# Altium schematic symbol library Potentiometer_Digital.SchLib: 52 symbols
Pins are listed as number, name and electrical type; pins without a type are passive.

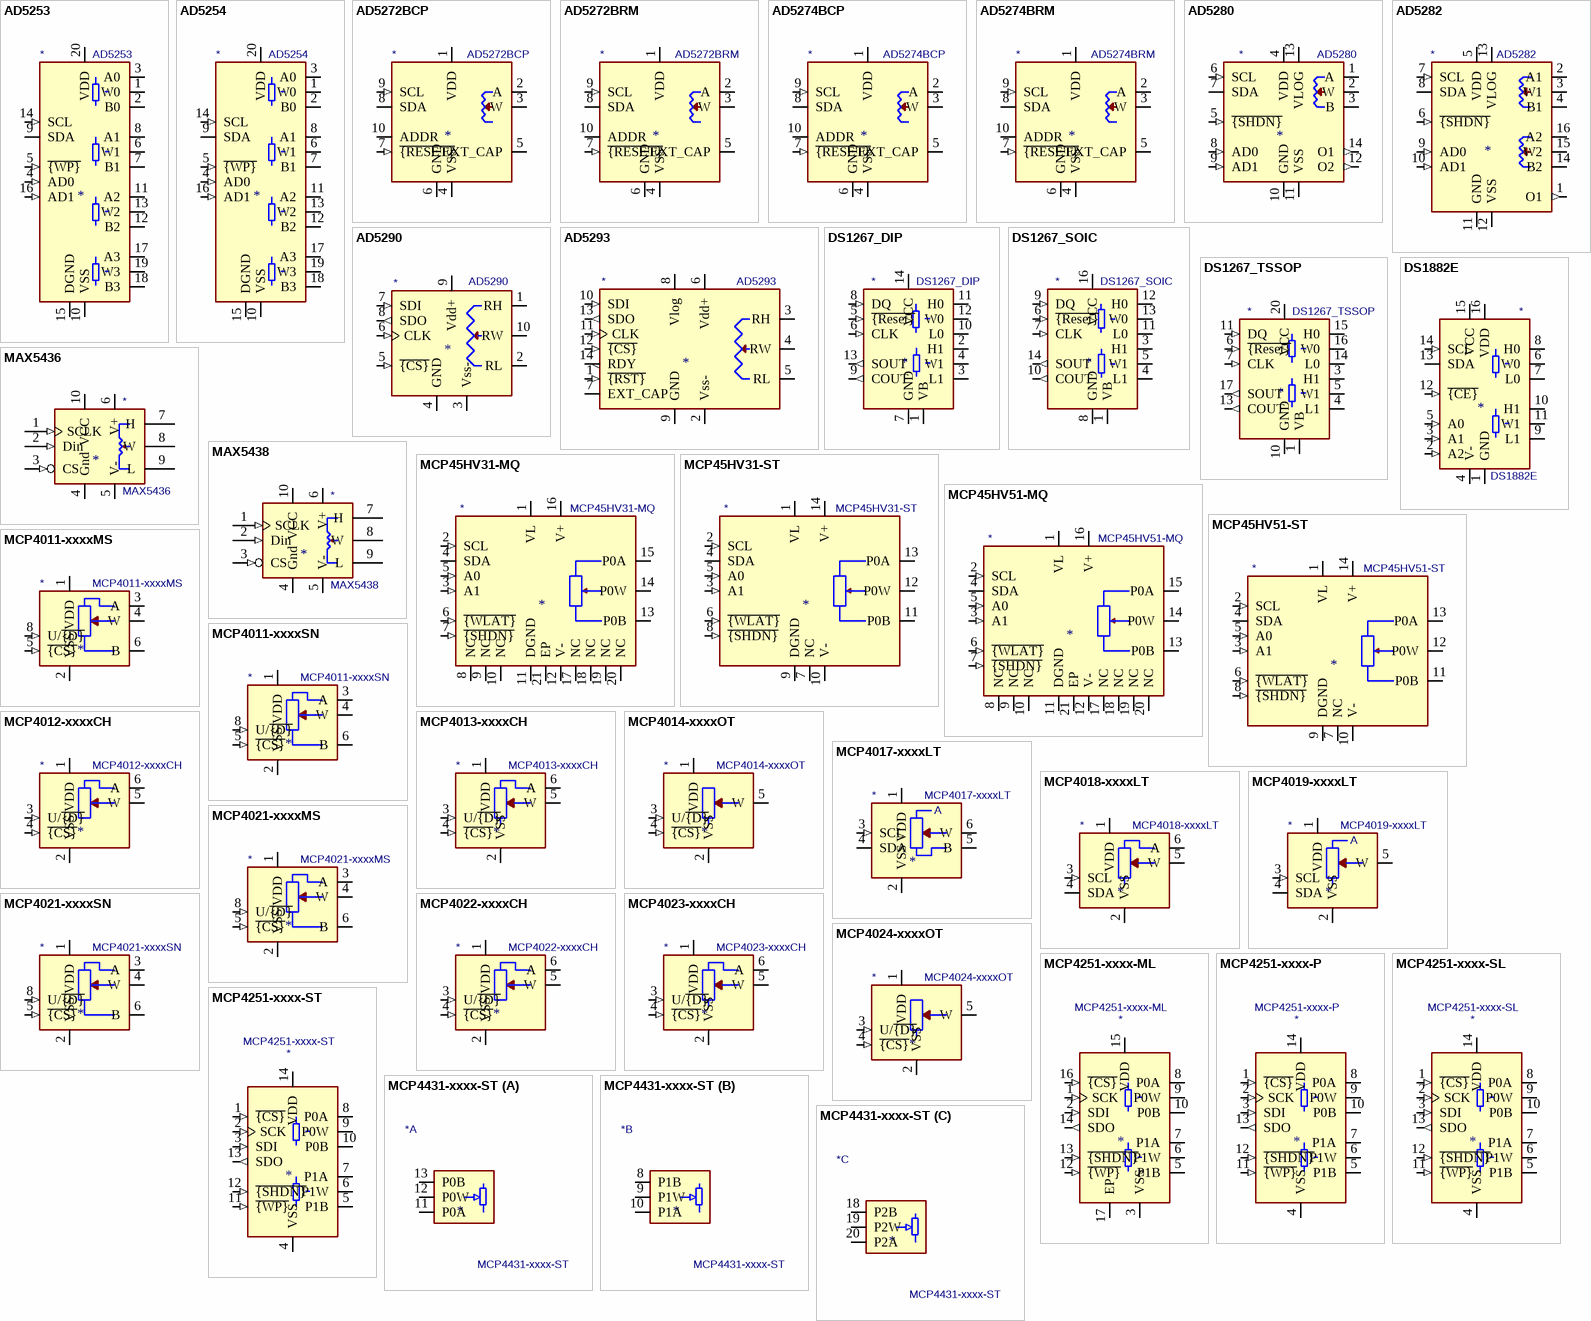
[diagram p0: symbols AD5253 to MCP4431-xxxx-ST]

## AD5253
designator *  value AD5253
ki_keywords: digital potentiometer; ki_description: Digital potentiometer, 64 position, 4 output, I2C interface, TSSOP-20; ki_fp_filters: TSSOP*4.4x6.5mm*P0.65mm*; Footprint: Package_SO:TSSOP-20_4.4x6.5mm_P0.65mm; Supplier: https://www.analog.com/media/en/technical-documentation/data-sheets/AD5253_5254.pdf
footprint TSSOP-20_4.4x6.5mm_P0.65mm
pins: 1 W0, 2 B0, 3 A0, 4 AD0 (in), 5 ~{{WP}} (in), 6 W1, 7 B1, 8 A1, 9 SDA (io), 10 VSS (power), 11 A2, 12 B2, 13 W2, 14 SCL (in), 15 DGND (power), 16 AD1 (in), 17 A3, 18 B3, 19 W3, 20 VDD (power)

## AD5254
designator *  value AD5254
ki_keywords: digital potentiometer; ki_description: Digital potentiometer, 256 position, 4 output, I2C interface, TSSOP-20; ki_fp_filters: TSSOP*4.4x6.5mm*P0.65mm*; Footprint: Package_SO:TSSOP-20_4.4x6.5mm_P0.65mm; Supplier: https://www.analog.com/media/en/technical-documentation/data-sheets/AD5253_5254.pdf
footprint TSSOP-20_4.4x6.5mm_P0.65mm
pins: 1 W0, 2 B0, 3 A0, 4 AD0 (in), 5 ~{{WP}} (in), 6 W1, 7 B1, 8 A1, 9 SDA (io), 10 VSS (power), 11 A2, 12 B2, 13 W2, 14 SCL (in), 15 DGND (power), 16 AD1 (in), 17 A3, 18 B3, 19 W3, 20 VDD (power)

## AD5272BCP
designator *  value AD5272BCP
ki_keywords: digital potentiometer; ki_description: Digital potentiometer, 1024 position, 1% Resistor Tolerance, I2C interface, LFCSP-10; ki_fp_filters: LFCSP*1EP*3x3mm*P0.5mm*; Footprint: Package_CSP:LFCSP-WD-10-1EP_3x3mm_P0.5mm_EP1.64x2.38mm; Supplier: https://www.analog.com/media/en/technical-documentation/data-sheets/AD5272_5274.pdf
footprint LFCSP-WD-10-1EP_3x3mm_P0.5mm_EP1.64x2.38mm
pins: 1 VDD (power), 2 A, 3 W, 4 VSS (power), 5 EXT_CAP, 6 GND (power), 7 ~{{RESET}} (in), 8 SDA (io), 9 SCL (in), 10 ADDR, 11 VSS hidden

## AD5272BRM
designator *  value AD5272BRM
ki_keywords: digital potentiometer; ki_description: Digital potentiometer, 1024 position, 1% Resistor Tolerance, I2C interface, MSOP-10; ki_fp_filters: MSOP*3x3mm*P0.5mm*; Footprint: Package_SO:MSOP-10_3x3mm_P0.5mm; Supplier: https://www.analog.com/media/en/technical-documentation/data-sheets/AD5272_5274.pdf
footprint MSOP-10_3x3mm_P0.5mm
pins: 1 VDD (power), 2 A, 3 W, 4 VSS (power), 5 EXT_CAP, 6 GND (power), 7 ~{{RESET}} (in), 8 SDA (io), 9 SCL (in), 10 ADDR

## AD5274BCP
designator *  value AD5274BCP
ki_keywords: digital potentiometer; ki_description: Digital potentiometer, 256 position, 1% Resistor Tolerance, I2C interface, LFCSP-10; ki_fp_filters: LFCSP*1EP*3x3mm*P0.5mm*; Footprint: Package_CSP:LFCSP-WD-10-1EP_3x3mm_P0.5mm_EP1.64x2.38mm; Supplier: https://www.analog.com/media/en/technical-documentation/data-sheets/AD5272_5274.pdf
footprint LFCSP-WD-10-1EP_3x3mm_P0.5mm_EP1.64x2.38mm
pins: 1 VDD (power), 2 A, 3 W, 4 VSS (power), 5 EXT_CAP, 6 GND (power), 7 ~{{RESET}} (in), 8 SDA (io), 9 SCL (in), 10 ADDR, 11 VSS hidden

## AD5274BRM
designator *  value AD5274BRM
ki_keywords: digital potentiometer; ki_description: Digital potentiometer, 256 position, 1% Resistor Tolerance, I2C interface, MSOP-10; ki_fp_filters: MSOP*3x3mm*P0.5mm*; Footprint: Package_SO:MSOP-10_3x3mm_P0.5mm; Supplier: https://www.analog.com/media/en/technical-documentation/data-sheets/AD5272_5274.pdf
footprint MSOP-10_3x3mm_P0.5mm
pins: 1 VDD (power), 2 A, 3 W, 4 VSS (power), 5 EXT_CAP, 6 GND (power), 7 ~{{RESET}} (in), 8 SDA (io), 9 SCL (in), 10 ADDR

## AD5280
designator *  value AD5280
ki_keywords: digital potentiometer; ki_description: Digital potentiometer, 256 position, single output, I2C interface; ki_fp_filters: TSSOP*4.4x5mm*P0.65mm*; Footprint: Package_SO:TSSOP-14_4.4x5mm_P0.65mm; Supplier: https://www.analog.com/media/en/technical-documentation/data-sheets/AD5280_5282.pdf
footprint TSSOP-14_4.4x5mm_P0.65mm
pins: 1 A, 2 W, 3 B, 4 VDD (power), 5 ~{{SHDN}} (in), 6 SCL (in), 7 SDA (io), 8 AD0 (in), 9 AD1 (in), 10 GND (power), 11 VSS (power), 12 O2 (out), 13 VLOG (power), 14 O1 (out)

## AD5282
designator *  value AD5282
ki_keywords: digital potentiometer; ki_description: Digital potentiometer, 256 position, dual output, I2C interface; ki_fp_filters: TSSOP*4.4x5mm*P0.65mm*; Footprint: Package_SO:TSSOP-16_4.4x5mm_P0.65mm; Supplier: https://www.analog.com/media/en/technical-documentation/data-sheets/AD5280_5282.pdf
footprint TSSOP-16_4.4x5mm_P0.65mm
pins: 1 O1 (out), 2 A1, 3 W1, 4 B1, 5 VDD (power), 6 ~{{SHDN}} (in), 7 SCL (in), 8 SDA (io), 9 AD0 (in), 10 AD1 (in), 11 GND (power), 12 VSS (power), 13 VLOG (power), 14 B2, 15 W2, 16 A2

## AD5290
designator *  value AD5290
ki_keywords: R POT; ki_description: Digital Potentiometer  256 steps   (SPI control) +- 15V, MSOP-10; ki_fp_filters: MSOP*3x3mm*P0.5mm*; Footprint: Package_SO:MSOP-10_3x3mm_P0.5mm; Supplier: https://www.analog.com/media/en/technical-documentation/data-sheets/AD5290.pdf
footprint MSOP-10_3x3mm_P0.5mm
pins: 1 RH, 2 RL, 3 Vss- (power), 4 GND (power), 5 ~{{CS}} (in), 6 CLK (in), 7 SDI (in), 8 SDO (out), 9 Vdd+ (power), 10 RW

## AD5293
designator *  value AD5293
ki_keywords: R POT; ki_description: Digital potentiometer 1024 pos (SPI), TSSOP-14; ki_fp_filters: TSSOP*4.4x5mm*P0.65mm*; Footprint: Package_SO:TSSOP-14_4.4x5mm_P0.65mm; Supplier: https://www.analog.com/media/en/technical-documentation/data-sheets/AD5293.pdf
footprint TSSOP-14_4.4x5mm_P0.65mm
pins: 1 ~{{RST}} (in), 2 Vss- (power), 3 RH, 4 RW, 5 RL, 6 Vdd+ (power), 7 EXT_CAP, 8 Vlog (power), 9 GND (power), 10 SDI (in), 11 CLK (in), 12 ~{{CS}} (in), 13 SDO (out), 14 RDY (oc)

## DS1267_DIP
designator *  value DS1267_DIP
ki_keywords: Dual Digital Potentiometer Maxim; ki_description: Dual Digital Potentiometer, Serial, 256 Steps, DIP-14; ki_fp_filters: DIP*W7.62mm*; Footprint: Package_DIP:DIP-14_W7.62mm; Supplier: https://datasheets.maximintegrated.com/en/ds/DS1267.pdf
footprint DIP-14_W7.62mm
pins: 1 VB (power), 2 H1, 3 L1, 4 W1, 5 ~{{Reset}} (in), 6 CLK (in), 7 GND (power), 8 DQ (in), 9 COUT (out), 10 L0, 11 H0, 12 W0, 13 SOUT (out), 14 VCC (power)

## DS1267_SOIC
designator *  value DS1267_SOIC
ki_keywords: Dual Digital Potentiometer Maxim; ki_description: Dual Digital Potentiometer, Serial, 256 Steps, SOIC-16; ki_fp_filters: SOIC*3.9x9.9mm*1.27mm*; Footprint: Package_SO:SOIC-16_3.9x9.9mm_P1.27mm; Supplier: https://datasheets.maximintegrated.com/en/ds/DS1267.pdf
footprint SOIC-16_3.9x9.9mm_P1.27mm
pins: 1 VB (power), 3 H1, 4 L1, 5 W1, 6 ~{{Reset}} (in), 7 CLK (in), 8 GND (power), 9 DQ (in), 10 COUT (out), 11 L0, 12 H0, 13 W0, 14 SOUT (out), 16 VCC (power)

## DS1267_TSSOP
designator *  value DS1267_TSSOP
ki_keywords: Dual Digital Potentiometer Maxim; ki_description: Dual Digital Potentiometer, Serial, 256 Steps, TSSOP-20; ki_fp_filters: TSSOP*4.4x6.5mm*0.65mm*; Footprint: Package_SO:TSSOP-20_4.4x6.5mm_P0.65mm; Supplier: https://datasheets.maximintegrated.com/en/ds/DS1267.pdf
footprint TSSOP-20_4.4x6.5mm_P0.65mm
pins: 1 VB (power), 3 H1, 4 L1, 5 W1, 6 ~{{Reset}} (in), 7 CLK (in), 10 GND (power), 11 DQ (in), 13 COUT (out), 14 L0, 15 H0, 16 W0, 17 SOUT (out), 20 VCC (power)

## DS1882E
designator *  value DS1882E
ki_keywords: digital potentiometer; ki_description: Dual Log Audio Digital Potentiometer, 64 positions, TSSOP-16; ki_fp_filters: TSSOP*4.4x5mm*P0.65mm*; Footprint: Package_SO:TSSOP-16_4.4x5mm_P0.65mm; Supplier: https://datasheets.maximintegrated.com/en/ds/DS1882.pdf
footprint TSSOP-16_4.4x5mm_P0.65mm
pins: 1 GND (power), 2 A2 (in), 3 A1 (in), 4 V- (power), 5 A0 (in), 6 W0, 7 L0, 8 H0, 9 L1, 10 H1, 11 W1, 12 ~{{CE}} (in), 13 SDA (io), 14 SCL (in), 15 VCC (power), 16 VDD (power)

## MAX5436
designator *  value MAX5436
ki_keywords: digital potentiometer resistor variable; ki_description: Low-Drift Digital Potentiometer; Supplier: https://datasheets.maximintegrated.com/en/ds/MAX5436-MAX5439.pdf
pins: 1 SCLK (in), 2 Din (in), 3 CS (in), 4 Gnd (power), 5 V- (power), 6 V+ (power), 7 H, 8 W, 9 L, 10 VCC (power)

## MAX5438
designator *  value MAX5438
ki_keywords: digital potentiometer resistor variable; ki_description: Low-Drift Digital Potentiometer; Supplier: https://datasheets.maximintegrated.com/en/ds/MAX5436-MAX5439.pdf
pins: 1 SCLK (in), 2 Din (in), 3 CS (in), 4 Gnd (power), 5 V- (power), 6 V+ (power), 7 H, 8 W, 9 L, 10 VCC (power)

## MCP45HV31-MQ
designator *  value MCP45HV31-MQ
ki_keywords: I2C Potentiometer pot digital; ki_description: 7/8-bit single +36V (+/-18V) digital pot, I2C serial interface, volatile memory, QFN-20; ki_fp_filters: QFN*5x5mm*P0.65mm*; Footprint: Package_DFN_QFN:QFN-20-1EP_5x5mm_P0.65mm_EP3.35x3.35mm; Supplier: http://ww1.microchip.com/downloads/en/DeviceDoc/20005304A.pdf
footprint QFN-20-1EP_5x5mm_P0.65mm_EP3.35x3.35mm
pins: 1 VL (power), 2 SCL (in), 3 A1 (in), 4 SDA (io), 5 A0 (in), 6 ~{{WLAT}} (in), 7 ~{{SHDN}} (in), 8 NC, 9 NC, 10 NC, 11 DGND (power), 12 V- (power), 13 P0B, 14 P0W, 15 P0A, 16 V+ (power), 17 NC, 18 NC, 19 NC, 20 NC, 21 EP (power)

## MCP45HV31-ST
designator *  value MCP45HV31-ST
ki_keywords: I2C Potentiometer pot digital; ki_description: 7/8-bit single +36V (+/-18V) digital pot, I2C serial interface, volatile memory, TSSOP-14; ki_fp_filters: TSSOP*4.4x5mm*P0.65mm*; Footprint: Package_SO:TSSOP-14_4.4x5mm_P0.65mm; Supplier: http://ww1.microchip.com/downloads/en/DeviceDoc/20005304A.pdf
footprint TSSOP-14_4.4x5mm_P0.65mm
pins: 1 VL (power), 2 SCL (in), 3 A1 (in), 4 SDA (io), 5 A0 (in), 6 ~{{WLAT}} (in), 7 NC, 8 ~{{SHDN}} (in), 9 DGND (power), 10 V- (power), 11 P0B, 12 P0W, 13 P0A, 14 V+ (power)

## MCP45HV51-MQ
designator *  value MCP45HV51-MQ
ki_keywords: I2C Potentiometer pot digital; ki_description: 7/8-bit single +36V (+/-18V) digital pot, I2C serial interface, volatile memory, QFN-20; ki_fp_filters: QFN*5x5mm*P0.65mm*; Footprint: Package_DFN_QFN:QFN-20-1EP_5x5mm_P0.65mm_EP3.35x3.35mm; Supplier: http://ww1.microchip.com/downloads/en/DeviceDoc/20005304A.pdf
footprint QFN-20-1EP_5x5mm_P0.65mm_EP3.35x3.35mm
pins: 1 VL (power), 2 SCL (in), 3 A1 (in), 4 SDA (io), 5 A0 (in), 6 ~{{WLAT}} (in), 7 ~{{SHDN}} (in), 8 NC, 9 NC, 10 NC, 11 DGND (power), 12 V- (power), 13 P0B, 14 P0W, 15 P0A, 16 V+ (power), 17 NC, 18 NC, 19 NC, 20 NC, 21 EP (power)

## MCP45HV51-ST
designator *  value MCP45HV51-ST
ki_keywords: I2C Potentiometer pot digital; ki_description: 7/8-bit single +36V (+/-18V) digital pot, I2C serial interface, volatile memory, TSSOP-14; ki_fp_filters: TSSOP*4.4x5mm*P0.65mm*; Footprint: Package_SO:TSSOP-14_4.4x5mm_P0.65mm; Supplier: http://ww1.microchip.com/downloads/en/DeviceDoc/20005304A.pdf
footprint TSSOP-14_4.4x5mm_P0.65mm
pins: 1 VL (power), 2 SCL (in), 3 A1 (in), 4 SDA (io), 5 A0 (in), 6 ~{{WLAT}} (in), 7 NC, 8 ~{{SHDN}} (in), 9 DGND (power), 10 V- (power), 11 P0B, 12 P0W, 13 P0A, 14 V+ (power)

## MCP4011-xxxxMS
designator *  value MCP4011-xxxxMS
ki_keywords: Digital Pot Potentiometer Up Down; ki_description: Low-Cost 64-Step Volatile Digital Potentiometer; ki_fp_filters: MSOP*3x3mm*P0.65mm*; Footprint: Package_SO:MSOP-8_3x3mm_P0.65mm; Supplier: http://ww1.microchip.com/downloads/en/DeviceDoc/21978c.pdf, MSOP-8
footprint MSOP-8_3x3mm_P0.65mm
pins: 1 VDD (power), 2 VSS (power), 3 A, 4 W, 5 ~{{CS}} (in), 6 B, 7 NC (in) hidden, 8 U/~{{D}} (in)

## MCP4011-xxxxSN
designator *  value MCP4011-xxxxSN
ki_keywords: Digital Pot Potentiometer Up Down; ki_description: Low-Cost 64-Step Volatile Digital Potentiometer; ki_fp_filters: SOIC*3.9x4.9mm*P1.27mm*; Footprint: Package_SO:SOIC-8_3.9x4.9mm_P1.27mm; Supplier: http://ww1.microchip.com/downloads/en/DeviceDoc/21978c.pdf, SOIC-8
footprint SOIC-8_3.9x4.9mm_P1.27mm
pins: 1 VDD (power), 2 VSS (power), 3 A, 4 W, 5 ~{{CS}} (in), 6 B, 7 NC (in) hidden, 8 U/~{{D}} (in)

## MCP4012-xxxxCH
designator *  value MCP4012-xxxxCH
ki_keywords: Digital Pot Potentiometer Up Down; ki_description: Low-Cost 64-Step Volatile Digital Potentiometer; ki_fp_filters: SOT?23*; Footprint: Package_TO_SOT_SMD:SOT-23-6; Supplier: http://ww1.microchip.com/downloads/en/DeviceDoc/21978c.pdf, SOT-23-6
footprint SOT-23-6
pins: 1 VDD (power), 2 VSS (power), 3 U/~{{D}} (in), 4 ~{{CS}} (in), 5 W, 6 A

## MCP4013-xxxxCH
designator *  value MCP4013-xxxxCH
ki_keywords: Digital Pot Potentiometer Up Down; ki_description: Low-Cost 64-Step Volatile Digital Potentiometer; ki_fp_filters: SOT?23*; Footprint: Package_TO_SOT_SMD:SOT-23-6; Supplier: http://ww1.microchip.com/downloads/en/DeviceDoc/21978c.pdf, SOT-23-6
footprint SOT-23-6
pins: 1 VDD (power), 2 VSS (power), 3 U/~{{D}} (in), 4 ~{{CS}} (in), 5 W, 6 A

## MCP4014-xxxxOT
designator *  value MCP4014-xxxxOT
ki_keywords: Digital Pot Potentiometer Up Down; ki_description: Low-Cost 64-Step Volatile Digital Potentiometer; ki_fp_filters: SOT?23*; Footprint: Package_TO_SOT_SMD:SOT-23-5; Supplier: http://ww1.microchip.com/downloads/en/DeviceDoc/21978c.pdf, SOT-23-5
footprint SOT-23-5
pins: 1 VDD (power), 2 VSS (power), 3 U/~{{D}} (in), 4 ~{{CS}} (in), 5 W

## MCP4017-xxxxLT
designator *  value MCP4017-xxxxLT
ki_keywords: TWI pot rheostat; ki_description: Low-Cost 128-Step Volatile I2C Digital Potentiometer, SC-70-6; ki_fp_filters: *SC?70*; Footprint: Package_TO_SOT_SMD:SOT-363_SC-70-6; Supplier: http://ww1.microchip.com/downloads/en/DeviceDoc/22147a.pdf
footprint SOT-363_SC-70-6
pins: 1 VDD (power), 2 VSS (power), 3 SCL (in), 4 SDA (io), 5 B, 6 W
text: A

## MCP4018-xxxxLT
designator *  value MCP4018-xxxxLT
ki_keywords: TWI pot; ki_description: Low-Cost 128-Step Volatile I2C Digital Potentiometer, SC-70-6; ki_fp_filters: *SC?70*; Footprint: Package_TO_SOT_SMD:SOT-363_SC-70-6; Supplier: http://ww1.microchip.com/downloads/en/DeviceDoc/22147a.pdf
footprint SOT-363_SC-70-6
pins: 1 VDD (power), 2 VSS (power), 3 SCL (in), 4 SDA (io), 5 W, 6 A

## MCP4019-xxxxLT
designator *  value MCP4019-xxxxLT
ki_keywords: TWI pot rheostat; ki_description: Low-Cost 128-Step Volatile I2C Digital Potentiometer, SC-70-5; ki_fp_filters: *SC?70*; Footprint: Package_TO_SOT_SMD:SOT-353_SC-70-5; Supplier: http://ww1.microchip.com/downloads/en/DeviceDoc/22147a.pdf
footprint SOT-353_SC-70-5
pins: 1 VDD (power), 2 VSS (power), 3 SCL (in), 4 SDA (io), 5 W
text: A

## MCP4021-xxxxMS
designator *  value MCP4021-xxxxMS
ki_keywords: Digital Pot Potentiometer Up Down; ki_description: Low-Cost 64-Step Digital Potentiometer with WiperLock™ Technology, MSOP-8; ki_fp_filters: MSOP*3x3mm*P0.65mm*; Footprint: Package_SO:MSOP-8_3x3mm_P0.65mm; Supplier: http://ww1.microchip.com/downloads/en/DeviceDoc/21945e.pdf
footprint MSOP-8_3x3mm_P0.65mm
pins: 1 VDD (power), 2 VSS (power), 3 A, 4 W, 5 ~{{CS}} (in), 6 B, 7 NC (in) hidden, 8 U/~{{D}} (in)

## MCP4021-xxxxSN
designator *  value MCP4021-xxxxSN
ki_keywords: Digital Pot Potentiometer Up Down; ki_description: Low-Cost 64-Step Digital Potentiometer with WiperLock™ Technology, SOIC-8; ki_fp_filters: SOIC*3.9x4.9mm*P1.27mm*; Footprint: Package_SO:SOIC-8_3.9x4.9mm_P1.27mm; Supplier: http://ww1.microchip.com/downloads/en/DeviceDoc/21945e.pdf
footprint SOIC-8_3.9x4.9mm_P1.27mm
pins: 1 VDD (power), 2 VSS (power), 3 A, 4 W, 5 ~{{CS}} (in), 6 B, 7 NC (in) hidden, 8 U/~{{D}} (in)

## MCP4022-xxxxCH
designator *  value MCP4022-xxxxCH
ki_keywords: Digital Pot Potentiometer Up Down; ki_description: Low-Cost 64-Step Digital Potentiometer with WiperLock™ Technology, SOT-23-6; ki_fp_filters: SOT?23*; Footprint: Package_TO_SOT_SMD:SOT-23-6; Supplier: http://ww1.microchip.com/downloads/en/DeviceDoc/21945e.pdf
footprint SOT-23-6
pins: 1 VDD (power), 2 VSS (power), 3 U/~{{D}} (in), 4 ~{{CS}} (in), 5 W, 6 A

## MCP4023-xxxxCH
designator *  value MCP4023-xxxxCH
ki_keywords: Digital Pot Potentiometer Up Down; ki_description: Low-Cost 64-Step Digital Potentiometer with WiperLock™ Technology, SOT-23-6; ki_fp_filters: SOT?23*; Footprint: Package_TO_SOT_SMD:SOT-23-6; Supplier: http://ww1.microchip.com/downloads/en/DeviceDoc/21945e.pdf
footprint SOT-23-6
pins: 1 VDD (power), 2 VSS (power), 3 U/~{{D}} (in), 4 ~{{CS}} (in), 5 W, 6 A

## MCP4024-xxxxOT
designator *  value MCP4024-xxxxOT
ki_keywords: Digital Pot Potentiometer Up Down; ki_description: Low-Cost 64-Step Digital Potentiometer with WiperLock™ Technology, SOT-23-5; ki_fp_filters: SOT?23*; Footprint: Package_TO_SOT_SMD:SOT-23-5; Supplier: http://ww1.microchip.com/downloads/en/DeviceDoc/21945e.pdf
footprint SOT-23-5
pins: 1 VDD (power), 2 VSS (power), 3 U/~{{D}} (in), 4 ~{{CS}} (in), 5 W

## MCP4251-xxxx-ML
designator *  value MCP4251-xxxx-ML
ki_keywords: Digital Pot Potentiometer; ki_description: Dual 8 Bit Digital Pot, SPI, Volatile Memory, QFN-16; ki_fp_filters: QFN*4x4mm*P0.65mm*; Footprint: Package_DFN_QFN:QFN-16-1EP_4x4mm_P0.65mm_EP2.5x2.5mm; Supplier: http://ww1.microchip.com/downloads/en/devicedoc/22060b.pdf
footprint QFN-16-1EP_4x4mm_P0.65mm_EP2.5x2.5mm
pins: 1 SCK (in), 2 SDI (in), 3 VSS (power), 4 VSS hidden, 5 P1B, 6 P1W, 7 P1A, 8 P0A, 9 P0W, 10 P0B, 11 NC (in) hidden, 12 ~{{WP}} (in), 13 ~{{SHDN}} (in), 14 SDO (out), 15 VDD (power), 16 ~{{CS}} (in), 17 EP

## MCP4251-xxxx-P
designator *  value MCP4251-xxxx-P
ki_keywords: Digital Pot Potentiometer; ki_description: Dual 8 Bit Digital Pot, SPI, Volatile Memory, PDIP-14; ki_fp_filters: DIP*W7.62mm*; Footprint: Package_DIP:DIP-14_W7.62mm; Supplier: http://ww1.microchip.com/downloads/en/devicedoc/22060b.pdf
footprint DIP-14_W7.62mm
pins: 1 ~{{CS}} (in), 2 SCK (in), 3 SDI (in), 4 VSS (power), 5 P1B, 6 P1W, 7 P1A, 8 P0A, 9 P0W, 10 P0B, 11 ~{{WP}} (in), 12 ~{{SHDN}} (in), 13 SDO (out), 14 VDD (power)

## MCP4251-xxxx-SL
designator *  value MCP4251-xxxx-SL
ki_keywords: Digital Pot Potentiometer; ki_description: Dual 8 Bit Digital Pot, SPI, Volatile Memory, SOIC-14; ki_fp_filters: SOIC*3.9x8.7mm*P1.27mm*; Footprint: Package_SO:SOIC-14_3.9x8.7mm_P1.27mm; Supplier: http://ww1.microchip.com/downloads/en/devicedoc/22060b.pdf
footprint SOIC-14_3.9x8.7mm_P1.27mm
pins: 1 ~{{CS}} (in), 2 SCK (in), 3 SDI (in), 4 VSS (power), 5 P1B, 6 P1W, 7 P1A, 8 P0A, 9 P0W, 10 P0B, 11 ~{{WP}} (in), 12 ~{{SHDN}} (in), 13 SDO (out), 14 VDD (power)

## MCP4251-xxxx-ST
designator *  value MCP4251-xxxx-ST
ki_keywords: Digital Pot Potentiometer; ki_description: Dual 8 Bit Digital Pot, SPI, Volatile Memory, TSSOP-14; ki_fp_filters: TSSOP*4.4x5mm*P0.65mm*; Footprint: Package_SO:TSSOP-14_4.4x5mm_P0.65mm; Supplier: http://ww1.microchip.com/downloads/en/devicedoc/22060b.pdf
footprint TSSOP-14_4.4x5mm_P0.65mm
pins: 1 ~{{CS}} (in), 2 SCK (in), 3 SDI (in), 4 VSS (power), 5 P1B, 6 P1W, 7 P1A, 8 P0A, 9 P0W, 10 P0B, 11 ~{{WP}} (in), 12 ~{{SHDN}} (in), 13 SDO (out), 14 VDD (power)

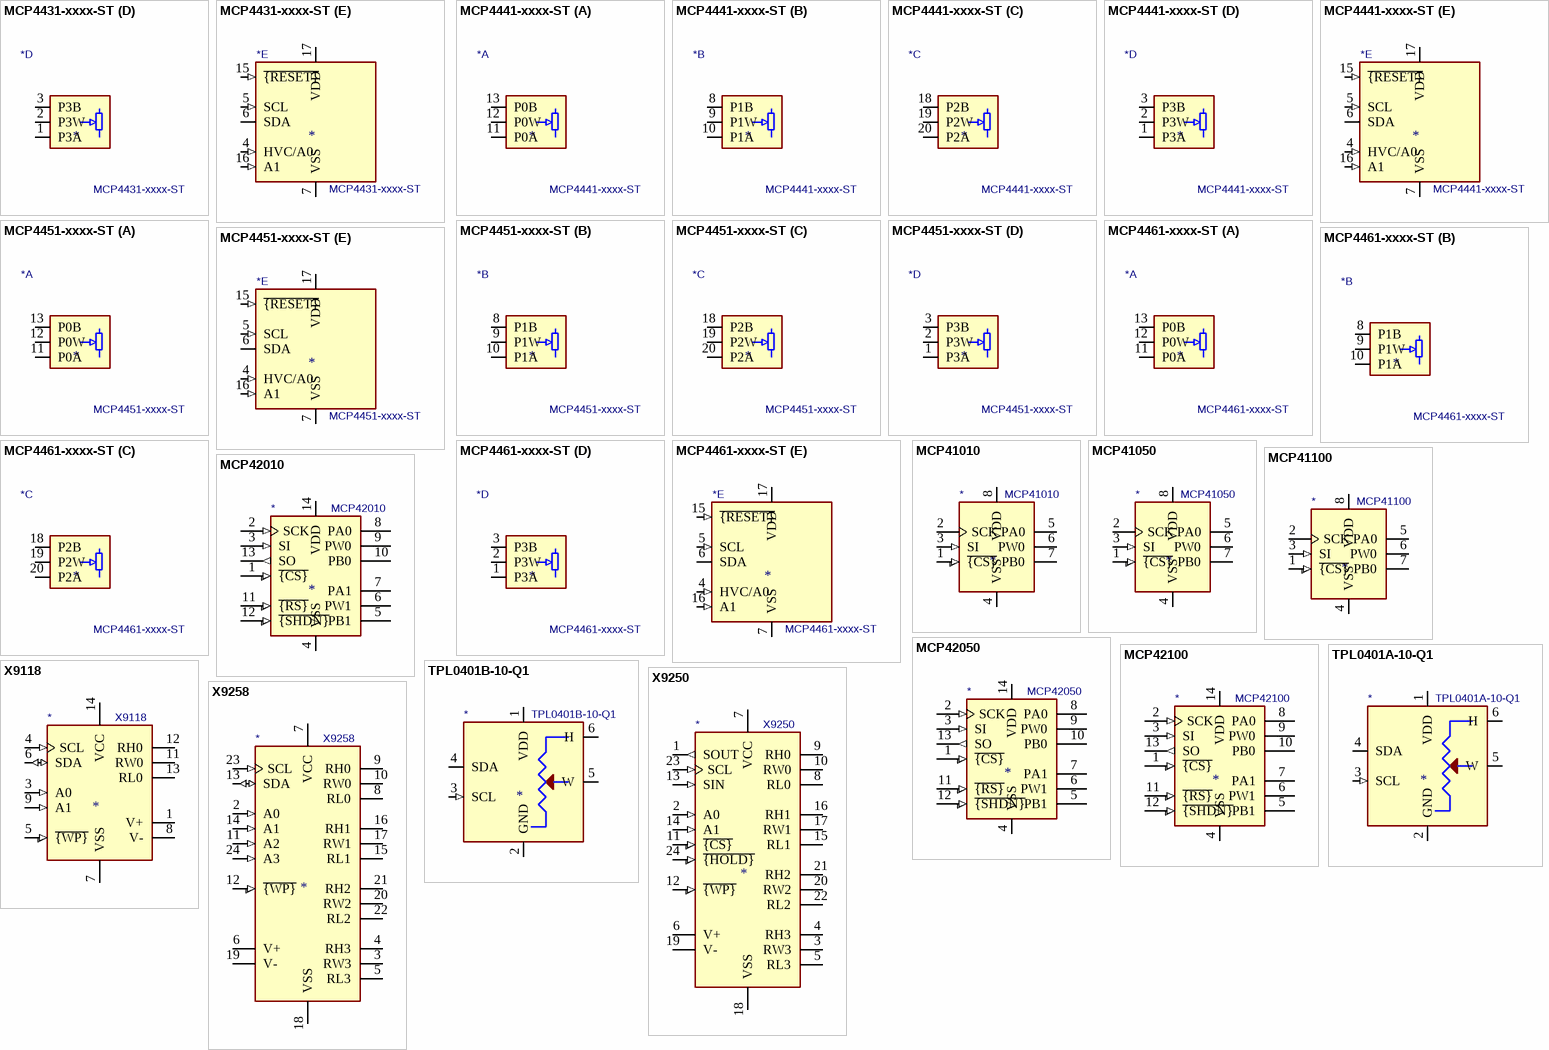
[diagram p1: symbols MCP4431-xxxx-ST to X9258]

## MCP4431-xxxx-ST
designator *  value MCP4431-xxxx-ST
ki_keywords: Digital Pot Potentiometer DigiPot; ki_description: Quad 7 Bit Digital Potentiometer, I²C, Volatile Memory, TSSOP-20; ki_fp_filters: TSSOP*4.4x6.5mm*P0.65mm*; Footprint: Package_SO:TSSOP-20_4.4x6.5mm_P0.65mm; Supplier: https://ww1.microchip.com/downloads/en/DeviceDoc/22267A_MCP4431.pdf
footprint TSSOP-20_4.4x6.5mm_P0.65mm
part A pins: 11 P0A, 12 P0W, 13 P0B
part B pins: 8 P1B, 9 P1W, 10 P1A
part C pins: 18 P2B, 19 P2W, 20 P2A
part D pins: 1 P3A, 2 P3W, 3 P3B
part E pins: 4 HVC/A0 (in), 5 SCL (in), 6 SDA (io), 7 VSS (power), 14 NC (in) hidden, 15 ~{{RESET}} (in), 16 A1 (in), 17 VDD (power)

## MCP4441-xxxx-ST
designator *  value MCP4441-xxxx-ST
ki_keywords: Digital Pot Potentiometer DigiPot; ki_description: Quad 7 Bit Digital Potentiometer, I²C, Nonvolatile Memory, TSSOP-20; ki_fp_filters: TSSOP*4.4x6.5mm*P0.65mm*; Footprint: Package_SO:TSSOP-20_4.4x6.5mm_P0.65mm; Supplier: https://ww1.microchip.com/downloads/en/DeviceDoc/22267A_MCP4431.pdf
footprint TSSOP-20_4.4x6.5mm_P0.65mm
part A pins: 11 P0A, 12 P0W, 13 P0B
part B pins: 8 P1B, 9 P1W, 10 P1A
part C pins: 18 P2B, 19 P2W, 20 P2A
part D pins: 1 P3A, 2 P3W, 3 P3B
part E pins: 4 HVC/A0 (in), 5 SCL (in), 6 SDA (io), 7 VSS (power), 14 NC (in) hidden, 15 ~{{RESET}} (in), 16 A1 (in), 17 VDD (power)

## MCP4451-xxxx-ST
designator *  value MCP4451-xxxx-ST
ki_keywords: Digital Pot Potentiometer DigiPot; ki_description: Quad 8 Bit Digital Potentiometer, I²C, Volatile Memory, TSSOP-20; ki_fp_filters: TSSOP*4.4x6.5mm*P0.65mm*; Footprint: Package_SO:TSSOP-20_4.4x6.5mm_P0.65mm; Supplier: https://ww1.microchip.com/downloads/en/DeviceDoc/22267A_MCP4431.pdf
footprint TSSOP-20_4.4x6.5mm_P0.65mm
part A pins: 11 P0A, 12 P0W, 13 P0B
part B pins: 8 P1B, 9 P1W, 10 P1A
part C pins: 18 P2B, 19 P2W, 20 P2A
part D pins: 1 P3A, 2 P3W, 3 P3B
part E pins: 4 HVC/A0 (in), 5 SCL (in), 6 SDA (io), 7 VSS (power), 14 NC (in) hidden, 15 ~{{RESET}} (in), 16 A1 (in), 17 VDD (power)

## MCP4461-xxxx-ST
designator *  value MCP4461-xxxx-ST
ki_keywords: Digital Pot Potentiometer DigiPot; ki_description: Quad 8 Bit Digital Potentiometer, I²C, Nonvolatile Memory, TSSOP-20; ki_fp_filters: TSSOP*4.4x6.5mm*P0.65mm*; Footprint: Package_SO:TSSOP-20_4.4x6.5mm_P0.65mm; Supplier: https://ww1.microchip.com/downloads/en/DeviceDoc/22267A_MCP4431.pdf
footprint TSSOP-20_4.4x6.5mm_P0.65mm
part A pins: 11 P0A, 12 P0W, 13 P0B
part B pins: 8 P1B, 9 P1W, 10 P1A
part C pins: 18 P2B, 19 P2W, 20 P2A
part D pins: 1 P3A, 2 P3W, 3 P3B
part E pins: 4 HVC/A0 (in), 5 SCL (in), 6 SDA (io), 7 VSS (power), 14 NC (in) hidden, 15 ~{{RESET}} (in), 16 A1 (in), 17 VDD (power)

## MCP41010
designator *  value MCP41010
ki_keywords: R POT; ki_description: Single Digital Potentiometer, SPI interface, 256 taps, 10 kohm; ki_fp_filters: DIP*W7.62mm* SOIC*P1.27mm*; Supplier: http://ww1.microchip.com/downloads/en/DeviceDoc/11195c.pdf
pins: 1 ~{{CS}} (in), 2 SCK, 3 SI (in), 4 VSS (power), 5 PA0, 6 PW0, 7 PB0, 8 VDD (power)

## MCP41050
designator *  value MCP41050
ki_keywords: R POT; ki_description: Single Digital Potentiometer, SPI interface, 256 taps, 50 kohm; ki_fp_filters: DIP*W7.62mm* SOIC*P1.27mm*; Supplier: http://ww1.microchip.com/downloads/en/DeviceDoc/11195c.pdf
pins: 1 ~{{CS}} (in), 2 SCK, 3 SI (in), 4 VSS (power), 5 PA0, 6 PW0, 7 PB0, 8 VDD (power)

## MCP41100
designator *  value MCP41100
ki_keywords: R POT; ki_description: Single Digital Potentiometer, SPI interface, 256 taps, 100 kohm; ki_fp_filters: DIP*W7.62mm* SOIC*P1.27mm*; Supplier: http://ww1.microchip.com/downloads/en/DeviceDoc/11195c.pdf
pins: 1 ~{{CS}} (in), 2 SCK, 3 SI (in), 4 VSS (power), 5 PA0, 6 PW0, 7 PB0, 8 VDD (power)

## MCP42010
designator *  value MCP42010
ki_keywords: R POT; ki_description: Dual Digital Potentiometer, SPI interface, 256 taps, 10 kohm; ki_fp_filters: DIP*W7.62mm* SOIC*3.9x8.7mm*P1.27mm* TSSOP*4.4x5mm*P0.65mm*; Supplier: http://ww1.microchip.com/downloads/en/DeviceDoc/11195c.pdf
pins: 1 ~{{CS}} (in), 2 SCK (in), 3 SI (in), 4 VSS (power), 5 PB1, 6 PW1, 7 PA1, 8 PA0, 9 PW0, 10 PB0, 11 ~{{RS}} (in), 12 ~{{SHDN}} (in), 13 SO (out), 14 VDD (power)

## MCP42050
designator *  value MCP42050
ki_keywords: R POT; ki_description: Dual Digital Potentiometer, SPI interface, 256 taps, 50 kohm; ki_fp_filters: DIP*W7.62mm* SOIC*3.9x8.7mm*P1.27mm* TSSOP*4.4x5mm*P0.65mm*; Supplier: http://ww1.microchip.com/downloads/en/DeviceDoc/11195c.pdf
pins: 1 ~{{CS}} (in), 2 SCK (in), 3 SI (in), 4 VSS (power), 5 PB1, 6 PW1, 7 PA1, 8 PA0, 9 PW0, 10 PB0, 11 ~{{RS}} (in), 12 ~{{SHDN}} (in), 13 SO (out), 14 VDD (power)

## MCP42100
designator *  value MCP42100
ki_keywords: R POT; ki_description: Dual Digital Potentiometer, SPI interface, 256 taps, 100 kohm; ki_fp_filters: DIP*W7.62mm* SOIC*3.9x8.7mm*P1.27mm* TSSOP*4.4x5mm*P0.65mm*; Supplier: http://ww1.microchip.com/downloads/en/DeviceDoc/11195c.pdf
pins: 1 ~{{CS}} (in), 2 SCK (in), 3 SI (in), 4 VSS (power), 5 PB1, 6 PW1, 7 PA1, 8 PA0, 9 PW0, 10 PB0, 11 ~{{RS}} (in), 12 ~{{SHDN}} (in), 13 SO (out), 14 VDD (power)

## TPL0401A-10-Q1
designator *  value TPL0401A-10-Q1
ki_keywords: Digital Pot Potentiometer I2C; ki_description: 128-TAPS Single-Channel Digital Potentiometer, I2C Interface, SC-70-6; ki_fp_filters: Texas*R*PDSO*G*; Footprint: Package_TO_SOT_SMD:Texas_R-PDSO-G6; Supplier: http://www.ti.com/lit/ds/symlink/tpl0401a-10-q1.pdf
footprint Texas_R-PDSO-G6
pins: 1 VDD (power), 2 GND (power), 3 SCL (in), 4 SDA (io), 5 W, 6 H

## TPL0401B-10-Q1
designator *  value TPL0401B-10-Q1
ki_keywords: Digital Pot Potentiometer I2C; ki_description: 128-TAPS Single-Channel Digital Potentiometer, I2C Interface, SC-70-6; ki_fp_filters: Texas*R*PDSO*G*; Footprint: Package_TO_SOT_SMD:Texas_R-PDSO-G6; Supplier: http://www.ti.com/lit/ds/symlink/tpl0401a-10-q1.pdf
footprint Texas_R-PDSO-G6
pins: 1 VDD (power), 2 GND (power), 3 SCL (in), 4 SDA (io), 5 W, 6 H

## X9118
designator *  value X9118
ki_keywords: digital potentiometer; ki_description: 100k Digital Potentiometer, 1024 steps, TSSOP-14; ki_fp_filters: TSSOP*4.4x5mm*P0.65mm*; Footprint: Package_SO:TSSOP-14_4.4x5mm_P0.65mm; Supplier: http://www.intersil.com/content/dam/Intersil/documents/x911/x9118.pdf
footprint TSSOP-14_4.4x5mm_P0.65mm
pins: 1 V+, 3 A0 (in), 4 SCL (in), 5 ~{{WP}} (in), 6 SDA (io), 7 VSS (power), 8 V-, 9 A1 (in), 11 RW0, 12 RH0, 13 RL0, 14 VCC (power)

## X9250
designator *  value X9250
ki_keywords: potentiometer resistor variable digital; ki_description: Quad 100k Digital Potentiometer, 256 steps, TSSOP-24/SOIC-24; ki_fp_filters: SOIC*7.5x15.4mm*P1.27mm* TSSOP*4.4x7.8mm*P0.65mm*; Supplier: https://www.intersil.com/content/dam/Intersil/documents/x925/x9250.pdf
pins: 1 SOUT (out), 2 A0 (in), 3 RW3, 4 RH3, 5 RL3, 6 V+, 7 VCC (power), 8 RL0, 9 RH0, 10 RW0, 11 ~{{CS}} (in), 12 ~{{WP}} (in), 13 SIN (in), 14 A1 (in), 15 RL1, 16 RH1, 17 RW1, 18 VSS (power), 19 V-, 20 RW2, 21 RH2, 22 RL2, 23 SCL (in), 24 ~{{HOLD}} (in)

## X9258
designator *  value X9258
ki_keywords: potentiometer resistor variable digital; ki_description: Quad 50k Digital Potentiometer, 256 steps, TSSOP-24/SOIC-24; ki_fp_filters: SOIC*7.5x15.4mm*P1.27mm* TSSOP*4.4x7.8mm*P0.65mm*; Supplier: http://www.intersil.com/content/dam/intersil/documents/x925/x9258.pdf
pins: 2 A0 (in), 3 RW3, 4 RH3, 5 RL3, 6 V+, 7 VCC (power), 8 RL0, 9 RH0, 10 RW0, 11 A2 (in), 12 ~{{WP}} (in), 13 SDA (io), 14 A1 (in), 15 RL1, 16 RH1, 17 RW1, 18 VSS (power), 19 V-, 20 RW2, 21 RH2, 22 RL2, 23 SCL (in), 24 A3 (in)